# Altium footprint library SN65LVDS2DBVT.PcbLib: 3 footprints
Each footprint in its own frame and in the unit in brackets; x right, y up, seen from the top. Pads: shape width x height; smd on the part's side, far side on the other; paste and mask are expansions set on the pad; w line width, h text height; cw(c..) or ccw(c..) is an arc to the next point about the centre after c.
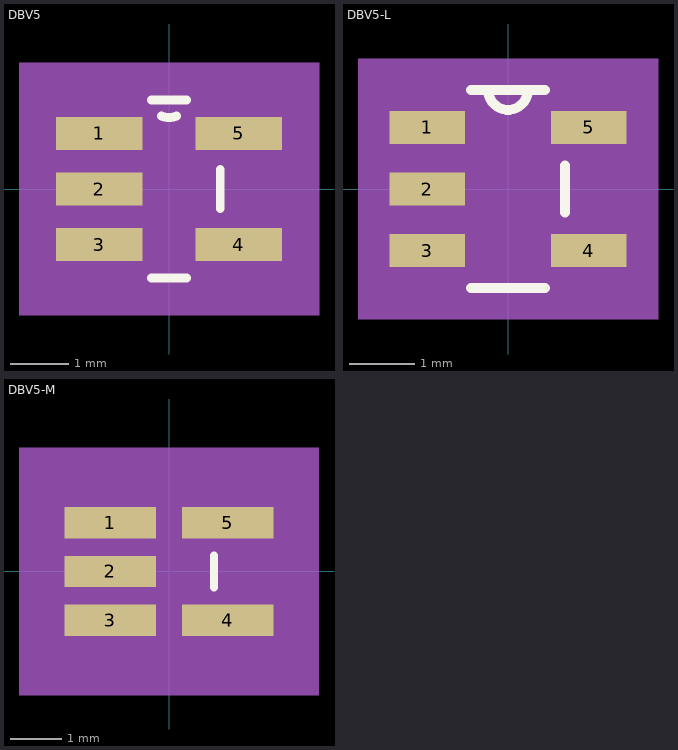
[diagram p0: the footprints below, top view; thin cyan lines are the x and y axes]

## DBV5 [mil]
pads (5):
  rect 58x22 smd: 1(-47,37.4) 2(-47,0) 3(-47,-37.4) 4(47,-37.4) 5(47,37.4)
Top Overlay:
  lines w6: -11.91,-60 11.91,-60 ; -11.91,60 11.91,60 ; -4.92,49.05 ccw(c0,60) 4.92,49.05 ; 34.5,-13.3 34.5,13.3
Mechanical 5:
  region: 101,-85 -101,-85 -101,85 101,85
Mechanical 13:
  lines w0: -12,60 ccw(c0,60) 12,60
  lines w1: -59,-47.4 -34.5,-47.4 -34.5,-27.4 -59,-27.4 -59,-47.4 ; -59,-10 -34.5,-10 -34.5,10 -59,10 -59,-10 ; -59,27.4 -34.5,27.4 -34.5,47.4 -59,47.4 -59,27.4 ; -34.5,-60 -34.5,60 34.5,60 34.5,-60 -34.5,-60 ; 34.5,-47.4 59,-47.4 59,-27.4 34.5,-27.4 34.5,-47.4 ; 34.5,27.4 59,27.4 59,47.4 34.5,47.4 34.5,27.4
Mechanical 15:
  region: 86,-70 -86,-70 -86,70 86,70
  lines w6: -86,-70 86,-70 86,70 -86,70 -86,-70
3D body: height 10, standoff 0, extent 0,0 10,10
3D body "DBV5.step": height 57.09, standoff 0, extent -59.01,-59.99 59.02,60.01

## DBV5-L [mil]
pads (5):
  rect 46x20 smd: 1(-49,37.4) 2(-49,0) 3(-49,-37.4) 4(49,-37.4) 5(49,37.4)
Top Overlay:
  lines w6: -22.41,-60 22.41,-60 ; -22.41,60 22.41,60 ; -12,60 ccw(c0,60) 12,60 ; 34.5,-14.3 34.5,14.3
Mechanical 5:
  region: 91,-79 -91,-79 -91,79 91,79
Mechanical 13:
  lines w0: -12,60 ccw(c0,60) 12,60
  lines w1: -59,-47.4 -59,-27.4 -34.5,-27.4 -34.5,-47.4 -59,-47.4 ; -59,-10 -59,10 -34.5,10 -34.5,-10 -59,-10 ; -59,27.4 -59,47.4 -34.5,47.4 -34.5,27.4 -59,27.4 ; -34.5,-60 34.5,-60 34.5,60 -34.5,60 -34.5,-60 ; 34.5,-47.4 34.5,-27.4 59,-27.4 59,-47.4 34.5,-47.4 ; 34.5,27.4 34.5,47.4 59,47.4 59,27.4 34.5,27.4
Mechanical 15:
  region: 76,-64 -76,-64 -76,64 76,64
  lines w6: -76,-64 -76,64 76,64 76,-64 -76,-64
3D body: height 10, standoff 0, extent 0,0 10,10
3D body "DBV5-L.step": height 57.09, standoff 0, extent -59.01,-59.99 59.02,60.01

## DBV5-M [mil]
pads (5):
  rect 70x24 smd: 1(-45,37.4) 2(-45,0) 3(-45,-37.4) 4(45,-37.4) 5(45,37.4)
Top Overlay:
  lines w6: 34.5,-12.3 34.5,12.3
Mechanical 5:
  region: 115,-95 -115,-95 -115,95 115,95
Mechanical 13:
  lines w0: -12,60 ccw(c0,60) 12,60
  lines w1: -59,-47.4 -34.5,-47.4 -34.5,-27.4 -59,-27.4 -59,-47.4 ; -59,-10 -34.5,-10 -34.5,10 -59,10 -59,-10 ; -59,27.4 -34.5,27.4 -34.5,47.4 -59,47.4 -59,27.4 ; -34.5,-60 -34.5,60 34.5,60 34.5,-60 -34.5,-60 ; 34.5,-47.4 59,-47.4 59,-27.4 34.5,-27.4 34.5,-47.4 ; 34.5,27.4 59,27.4 59,47.4 34.5,47.4 34.5,27.4
Mechanical 15:
  region: 100,-80 -100,-80 -100,80 100,80
  lines w6: -100,-80 100,-80 100,80 -100,80 -100,-80
3D body: height 10, standoff 0, extent 0,0 10,10
3D body "DBV5-M.step": height 57.09, standoff 0, extent -59.01,-59.99 59.02,60.01